# Altium integrated library biblioteka.IntLib: 11 symbols
Pins are listed as number, name and electrical type; pins without a type are passive.

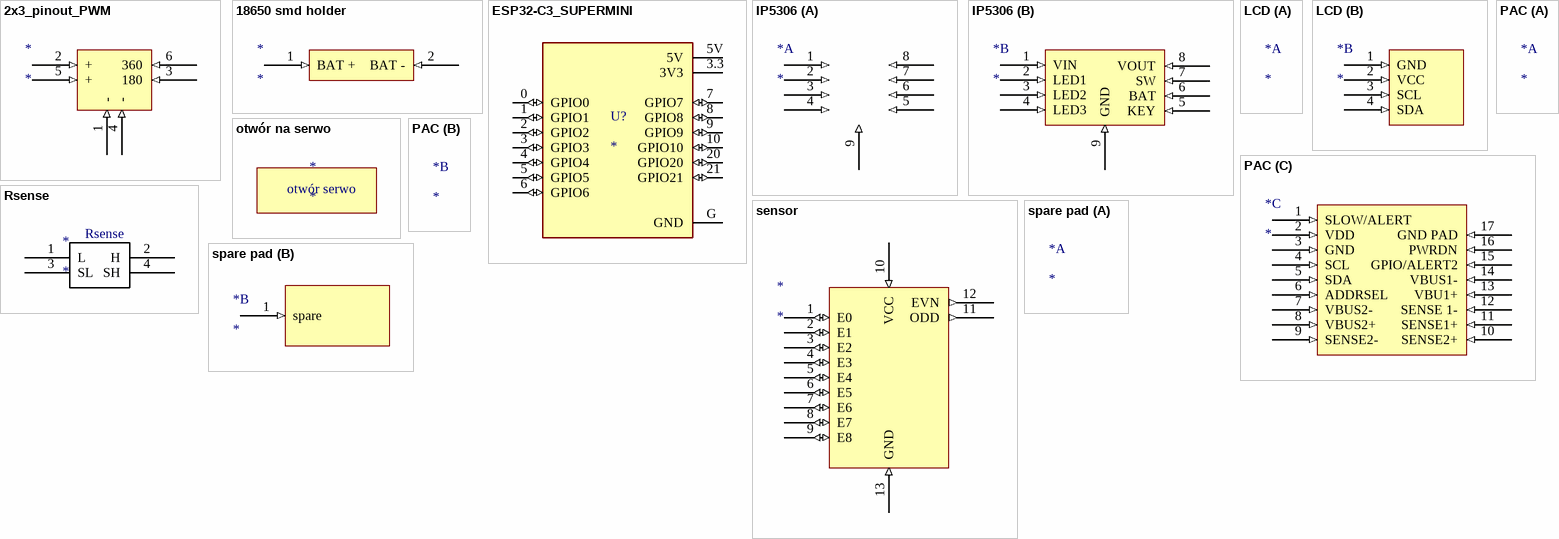
[diagram p0: symbols 2x3_pinout_PWM to spare pad]

## 2x3_pinout_PWM
designator *
footprint Goldpin raster 2x3
pins: 1 - (in), 2 + (in), 3 180 (in), 4 - (in), 5 + (in), 6 360 (in)

## 18650 smd holder
designator *
footprint 18650 smd holder
pins: 1 BAT + (in), 2 BAT - (in)

## ESP32-C3_SUPERMINI
designator U?
Super tiny ESP32-C3 board; MF: Espressif Systems; MP: ESP32-C3 SuperMini; SnapEDA_Link: https://www.snapeda.com/parts/ESP32-C3%20SuperMini/Espressif+Systems/view-part/?ref=snap; Package: Package; Value: *; Check_prices: https://www.snapeda.com/parts/ESP32-C3%20SuperMini/Espressif+Systems/view-part/?ref=eda
footprint MODULE_ESP32-C3_SUPERMINI
pins: 0 GPIO0 (io), 1 GPIO1 (io), 2 GPIO2 (io), 3 GPIO3 (io), 3.3 3V3 (power), 4 GPIO4 (io), 5 GPIO5 (io), 5V (power), 6 GPIO6 (io), 7 GPIO7 (io), 8 GPIO8 (io), 9 GPIO9 (io), 10 GPIO10 (io), 20 GPIO20 (io), 21 GPIO21 (io), G GND (power)

## IP5306
designator *
part A pins: 1 (in), 2 (in), 3 (in), 4 (in), 5 (in), 6 (in), 7 (in), 8 (in), 9 (in)
part B pins: 1 VIN (in), 2 LED1 (in), 3 LED2 (in), 4 LED3 (in), 5 KEY (in), 6 BAT (in), 7 SW (in), 8 VOUT (in), 9 GND (in)

## LCD
designator *
footprint LCD
part B pins: 1 GND (in), 2 VCC (in), 3 SCL (in), 4 SDA (in)

## otwór na serwo
designator *
footprint serwo
text: otwór serwo

## PAC
designator *
footprint QFN50P300X300X90_HS-17N (QFN, 16-Leads, Body 3,00x3,00mm, Pitch 0,50mm, Thermal Pad 1,10x1,10mm, IPC Medium Density)
part C pins: 1 SLOW/ALERT (in), 2 VDD (in), 3 GND (in), 4 SCL (in), 5 SDA (in), 6 ADDRSEL (in), 7 VBUS2- (in), 8 VBUS2+ (in), 9 SENSE2- (in), 10 SENSE2+ (in), 11 SENSE1+ (in), 12 SENSE 1- (in), 13 VBU1+ (in), 14 VBUS1- (in), 15 GPIO/ALERT2 (in), 16 PWRDN (in), 17 GND PAD (in)

## Rsense
designator *
footprint Rsense
pins: 1 L, 2 H, 3 SL, 4 SH

## sensor
designator *
footprint czujnik zbliżeniowy
pins: 1 E0 (io), 2 E1 (io), 3 E2 (io), 4 E3 (io), 5 E4 (io), 6 E5 (io), 7 E6 (io), 8 E7 (io), 9 E8 (io), 10 VCC (in), 11 ODD (out), 12 EVN (out), 13 GND (in)

## spare pad
designator *
footprint spare pad
part B pins: 1 spare (in)


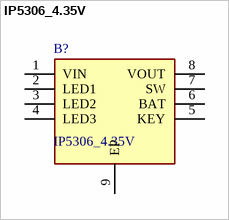
[diagram p1: symbol IP5306_4.35V]

## IP5306_4.35V
designator B?
2.1A Charging 2.4 A Discharge Highly Integrated Mobile Power Supply; Manufacturer_Name: INJOINIC; Geometry.Height: 1.65mm; Manufacturer_Part_Number: IP5306_4.35V; Mouser Part Number: *; Mouser Price/Stock: *; Arrow Part Number: *; Arrow Price/Stock: *; Datasheet Link: https://datasheet.lcsc.com/szlcsc/1906271838_INJOINIC-IP5306-4-35V_C384572.pdf
footprint SOIC127P600X165-9N
pins: 1 VIN, 2 LED1, 3 LED2, 4 LED3, 5 KEY, 6 BAT, 7 SW, 8 VOUT, 9 EP